# Altium footprint library 3.5inch_UNO.PcbLib: 1 footprints
Each footprint in its own frame and in the unit in brackets; x right, y up, seen from the top. Pads: shape width x height; smd on the part's side, far side on the other; paste and mask are expansions set on the pad; w line width, h text height; cw(c..) or ccw(c..) is an arc to the next point about the centre after c.
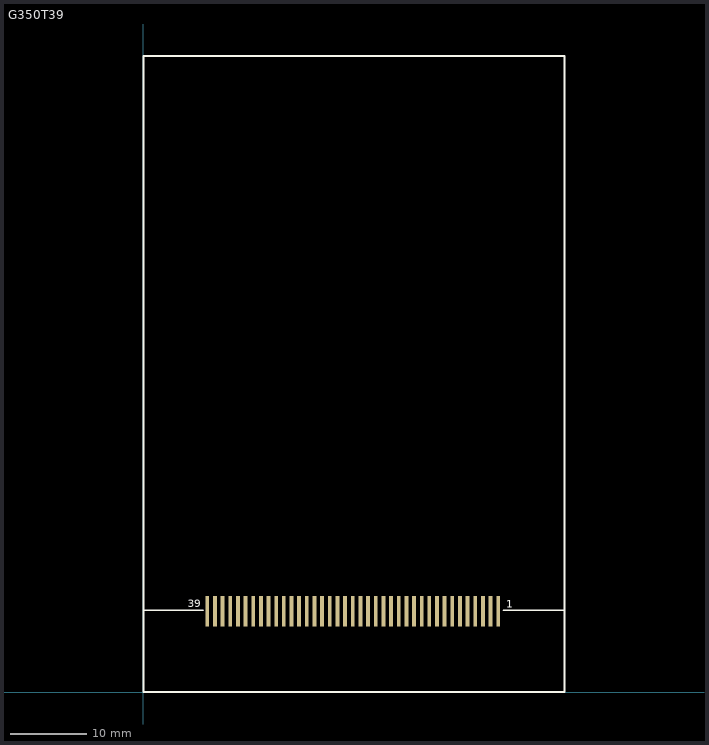
[diagram p0: the footprint, top view; thin cyan lines are the x and y axes]

## G350T39 [mm]
pads (39):
  rect 0.5x4 smd: 1(46.33,10.554) 2(45.33,10.554) 3(44.33,10.554) 4(43.33,10.554) 5(42.33,10.554) 6(41.33,10.554) 7(40.33,10.554) 8(39.33,10.554) 9(38.33,10.554) 10(37.33,10.554) 11(36.33,10.554) 12(35.33,10.554) 13(34.33,10.554) 14(33.33,10.554) 15(32.33,10.554) 16(31.33,10.554) 17(30.33,10.554) 18(29.33,10.554) 19(28.33,10.554) 20(27.33,10.554) 21(26.33,10.554) 22(25.33,10.554) 23(24.33,10.554) 24(23.33,10.554) 25(22.33,10.554) 26(21.33,10.554) 27(20.33,10.554) 28(19.33,10.554) 29(18.33,10.554) 30(17.33,10.554) 31(16.33,10.554) 32(15.33,10.554) 33(14.33,10.554) 34(13.33,10.554) 35(12.33,10.554) 36(11.33,10.554) 37(10.33,10.554) 38(9.33,10.554) 39(8.33,10.554)
Top Overlay:
  lines w0.254: -0.012,10.7 7.755,10.7 ; 47.026,10.7 55,10.7 ; 0,0 55,0 55,83.1 0,83.1 0,0
  text "1" at 47.389,11.034 h1.02
  text "39" at 5.784,11.074 h1.02